# Altium integrated library Big_Library_Transistor.IntLib: 10 symbols
Pins are listed as number, name and electrical type; pins without a type are passive.

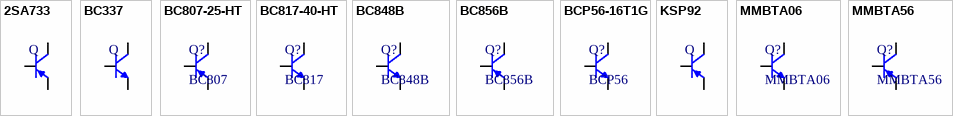
[diagram p0: symbols 2SA733 to MMBTA56]

## 2SA733
designator Q
footprint TO-92
pins: 1 E, 2 C, 3 B

## BC337
designator Q
footprint TO-92
pins: 1 C, 2 B, 3 E

## BC807-25-HT
designator Q?, comment BC807
TRANSISTOR DIS.500mA 45V PNP SOT23 EPITAXIAL SMT; Current: 500mA; Voltage(CE): -45V; Channel: PNP; Package: SOT23; ComponentLink1Description: Link; ComponentLink1URL: https://ozdisan.com/guc-yari-iletkenleri/transistorler/discrete-transistorler/BC807-25-HT/448899
footprint INF-SOT23_L (SOT23, 3-Leads, Body 2.9x1.3 mm, Pitch 0.95 mm, IPC High Density)
footprint INF-SOT23_M (SOT23, 3-Leads, Body 2.9x1.3 mm, Pitch 0.95 mm, IPC Low Density)
footprint INF-SOT23_N (SOT23, 3-Leads, Body 2.9x1.3 mm, Pitch 0.95 mm, IPC Medium Density)
pins: 1 B, 2 E, 3 C

## BC817-40-HT
designator Q?, comment BC817
NPN Silicon AF Transistor, 30 V VCEO, 100 mA IC, SOT23, Reel, Green; Manufacturer: Infineon; VCEO (max): 45V; ICM (max): 500mA; IBM (max): 2000mA; Green: TRUE; ICBO (max): 15Â nA; fT (typ): 250Â MHz; Ptot (max): 330Â mW; Packing: Reel; Polarity: NPN; PartNumber: BC817; VCBO (max): 45V; IC (max): 500mA; Mounting Technology: Surface Mount; PackageDescription: 3-Pin Small Outline Transistor Package, 1.3 x 2.9 mm Body, 0.95 mm Pitch; PackageReference: SOT23; ComponentLink1Description: Link1; ComponentLink1URL: https://ozdisan.com/power-semiconductors/transistors/discrete-transistors/BC817-40-HT/417241
footprint INF-SOT23_L (SOT23, 3-Leads, Body 2.9x1.3 mm, Pitch 0.95 mm, IPC High Density)
footprint INF-SOT23_M (SOT23, 3-Leads, Body 2.9x1.3 mm, Pitch 0.95 mm, IPC Low Density)
footprint INF-SOT23_N (SOT23, 3-Leads, Body 2.9x1.3 mm, Pitch 0.95 mm, IPC Medium Density)
pins: 1 B, 2 E, 3 C

## BC848B
designator Q?
NPN Silicon AF Transistor, 30 V VCEO, 100 mA IC, SOT23, Reel, Green; Manufacturer: Infineon; VCEO (max): 30Â V; ICM (max): 200Â mA; VEBO (max): 6Â V; Green: TRUE; IC (max): 100Â mA; ICBO (max): 15Â nA; fT (typ): 250Â MHz; Ptot (max): 330Â mW; ComponentLink1Description: Manufacturer URL; ComponentLink3URL: http://www.infineon.com/dgdl/SOT23-Package_Overview.pdf?folderId=db3a30431936bc4b0119532290053c66&fileId=db3a30431936bc4b0119533468123c85; ComponentLink1URL: http://www.infineon.com/; ComponentLink2URL: http://www.infineon.com/dgdl/bc847series_bc848series_bc849series_bc850series.pdf?folderId=db3a304314dca389011541d30fa21656&fileId=db3a304314dca389011541d4630a1657; Packing: Reel; Polarity: NPN; IBM (max): 200Â mA; PartNumber: BC848B; VCBO (max): 30Â V; Mounting Technology: Surface Mount; PackageVersion: Apr-08; PackageDescription: 3-Pin Small Outline Transistor Package, 1.3 x 2.9 mm Body, 0.95 mm Pitch; ComponentLink3Description: Package Specification; PackageReference: SOT23; ComponentLink2Description: Datasheet; ComponentLink4Description: Link
footprint INF-SOT23_L (SOT23, 3-Leads, Body 2.9x1.3 mm, Pitch 0.95 mm, IPC High Density)
footprint INF-SOT23_M (SOT23, 3-Leads, Body 2.9x1.3 mm, Pitch 0.95 mm, IPC Low Density)
footprint INF-SOT23_N (SOT23, 3-Leads, Body 2.9x1.3 mm, Pitch 0.95 mm, IPC Medium Density)
pins: 1 B, 2 E, 3 C

## BC856B
designator Q?
PNP Ic=-100mA Vceo=-65V hfe=220~475 P=225mW; PartNumber: BC848B; Manufacturer: Infineon; Manufacturer Part Number: BC856BLT1G; VCEO (max): 30Â V; ICM (max): 200Â mA; VEBO (max): 6Â V; Packing: Reel; Polarity: NPN; Green: TRUE; IC (max): 100Â mA; ICBO (max): 15Â nA; fT (typ): 250Â MHz; Ptot (max): 330Â mW; Max Power Dissipation: 300mW; Collector Emitter Voltage (VCEO): 65V; Max Collector Current: 100mA; Emitter Base Voltage (VEBO): 5V; Collector Base Voltage (VCBO): 80V; hFE Min: 220; Collector Emitter Saturation Voltage: -650mV; Element Configuration: Single; Transition Frequency: 100MHz; Collector-emitter Voltage-Max: 650mV; Number of Elements: 1; Voltage Rating (DC): -65V; Current Rating: -100mA; ComponentLink1Description: Manufacturer URL; ComponentLink3URL: http://www.infineon.com/dgdl/SOT23-Package_Overview.pdf?folderId=db3a30431936bc4b0119532290053c66&fileId=db3a30431936bc4b0119533468123c85; ComponentLink1URL: http://www.infineon.com/; ComponentLink2URL: http://www.infineon.com/dgdl/bc847series_bc848series_bc849series_bc850series.pdf?folderId=db3a304314dca389011541d30fa21656&fileId=db3a304314dca389011541d4630a1657; IBM (max): 200Â mA; VCBO (max): 30Â V; Mounting Technology: Surface Mount; PackageVersion: Apr-08; PackageDescription: 3-Pin Small Outline Transistor Package, 1.3 x 2.9 mm Body, 0.95 mm Pitch; ComponentLink3Description: Package Specification; PackageReference: SOT23; ComponentLink2Description: Datasheet; Supplier 1: Future Electronics; RoHS: Yes; Category: BJTs; Stock 1: 1022; Pricing 1: 1=0,16700, 15=0,12300, 75=0,09640, 300=0,07370, 1500=0,04730 (USD); Case/Package: SOT-23-3; Number of Pins: 3; Contact Plating: Tin,Matte; Min Operating Temperature: -55°C; Max Operating Temperature: 150°C; Packaging: Tape and Reel; Package Quantity: 3000; Series: -; Collector Emitter Breakdown Voltage: 65V; Power Dissipation: 300mW; Frequency: 100MHz; Gain Bandwidth Product: 100MHz; Max Frequency: 100MHz; Max Breakdown Voltage: 65V; Length: 2.9mm; Width: 1.3mm; Height: 0.94mm; Radiation Hardening: No; RoHS Compliant: Yes; Lead Free: Lead Free; Reach SVHC Compliant: Yes; ComponentLink4URL: https://datasheet.ciiva.com/15138/getdatasheetpartid-38429-15138607.pdf?src-supplier=Verical; ComponentLink4Description: https://datasheet.ciiva.com/15138/getdatasheetpartid-38429-15138607.pdf?src-supplier=Verical; ComponentLink5URL: https://datasheet.ciiva.com/7972/bc856alt1-d-7972214.pdf?src-supplier=Element14; ComponentLink5Description: https://datasheet.ciiva.com/7972/bc856alt1-d-7972214.pdf?src-supplier=Element14; ComponentLink6URL: https://datasheet.ciiva.com/7972/bc856alt1-d-7972216.pdf?src-supplier=Element14; ComponentLink6Description: https://datasheet.ciiva.com/7972/bc856alt1-d-7972216.pdf?src-supplier=Element14; ComponentLink7URL: https://datasheet.ciiva.com/22664/1840529-22664118.pdf?src-supplier=Element14; ComponentLink7Description: https://datasheet.ciiva.com/22664/1840529-22664118.pdf?src-supplier=Element14; ComponentLink8URL: https://datasheet.ciiva.com/11202/bc856alt1-d-11202124.pdf?src-supplier=Avnet; ComponentLink8Description: https://datasheet.ciiva.com/11202/bc856alt1-d-11202124.pdf?src-supplier=Avnet; ComponentLink9URL: https://datasheet.ciiva.com/11198/bc856alt1-d-11198092.pdf?src-supplier=Avnet; ComponentLink9Description: https://datasheet.ciiva.com/11198/bc856alt1-d-11198092.pdf?src-supplier=Avnet; ComponentLink10URL: https://datasheet.ciiva.com/976/bc856alt1-d-976399.pdf?src-supplier=Digi-Key; ComponentLink10Description: https://datasheet.ciiva.com/976/bc856alt1-d-976399.pdf?src-supplier=Digi-Key; ComponentLink11URL: https://datasheet.ciiva.com/976/bc856alt1-d-976400.pdf?src-supplier=Digi-Key; ComponentLink11Description: https://datasheet.ciiva.com/976/bc856alt1-d-976400.pdf?src-supplier=Digi-Key; ComponentLink12URL: https://datasheet.ciiva.com/976/bc856alt1-d-976398.pdf?src-supplier=Digi-Key; ComponentLink12Description: https://datasheet.ciiva.com/976/bc856alt1-d-976398.pdf?src-supplier=Digi-Key; ComponentLink13Description: Link
footprint INF-SOT23_L (SOT23, 3-Leads, Body 2.9x1.3 mm, Pitch 0.95 mm, IPC High Density)
footprint INF-SOT23_M (SOT23, 3-Leads, Body 2.9x1.3 mm, Pitch 0.95 mm, IPC Low Density)
footprint INF-SOT23_N (SOT23, 3-Leads, Body 2.9x1.3 mm, Pitch 0.95 mm, IPC Medium Density)
pins: 1 B, 2 E, 3 C

## BCP56-16T1G
designator Q?, comment BCP56
Trans GP BJT NPN 80V 1A Automotive 4-Pin(3+Tab) SOT-223 T/R; Manufacturer: ON Semiconductor; Manufacturer Part Number: BCP56-16T1G; Max Power Dissipation: 1.5W; Collector Base Voltage (VCBO): 100V; Emitter Base Voltage (VEBO): 5V; Element Configuration: Single; Collector Emitter Saturation Voltage: 500mV; Transition Frequency: 130MHz; Number of Elements: 1; hFE Min: 25; Supplier 1: Digi-Key; RoHS: Yes; Category: BJTs; Stock 1: 31080; Pricing 1: 1=0.48000, 10=0.33400, 25=0.31080, 100=0.16880, 500=0.13768 (USD); Case/Package: SOT-223-4; Number of Pins: 4; Contact Plating: Tin,Matte; Min Operating Temperature: -65°C; Max Operating Temperature: 150°C; Packaging: Tape and Reel; Collector Emitter Voltage (VCEO): 80V; Max Collector Current: 1A; Polarity: NPN; Package Quantity: 1000; Collector Emitter Breakdown Voltage: 80V; Max Breakdown Voltage: 80V; Gain Bandwidth Product: 130MHz; Collector-emitter Voltage-Max: 500mV; Power Dissipation: 1.5W; Series: -; Frequency: 130MHz; Voltage Rating (DC): 80V; Current Rating: 1A; Max Frequency: 130MHz; Length: 6.5mm; Width: 3.5mm; Height: 1.57mm; Radiation Hardening: No; Lead Free: Lead Free; RoHS Compliant: Yes; REACH SVHC: No SVHC; ComponentLink1URL: https://datasheet.ciiva.com/15139/getdatasheetpartid-110207-15139278.pdf?src-supplier=Verical; ComponentLink1Description: https://datasheet.ciiva.com/15139/getdatasheetpartid-110207-15139278.pdf?src-supplier=Verical; ComponentLink2URL: https://datasheet.ciiva.com/976/bcp56t1-d-976689.pdf?src-supplier=Digi-Key; ComponentLink2Description: https://datasheet.ciiva.com/976/bcp56t1-d-976689.pdf?src-supplier=Digi-Key; ComponentLink3URL: https://datasheet.ciiva.com/976/bcp56t1-d-976690.pdf?src-supplier=Digi-Key; ComponentLink3Description: https://datasheet.ciiva.com/976/bcp56t1-d-976690.pdf?src-supplier=Digi-Key; ComponentLink4URL: https://datasheet.ciiva.com/976/bcp56t1-d-976691.pdf?src-supplier=Digi-Key; ComponentLink4Description: https://datasheet.ciiva.com/976/bcp56t1-d-976691.pdf?src-supplier=Digi-Key; ComponentLink5URL: https://datasheet.ciiva.com/16218/bcp56t1-d-16218471.pdf?src-supplier=Future+Electronics; ComponentLink5Description: https://datasheet.ciiva.com/16218/bcp56t1-d-16218471.pdf?src-supplier=Future+Electronics; ComponentLink6URL: https://datasheet.ciiva.com/16478/bcp56t1-d-16478825.pdf?src-supplier=Avnet+Asia; ComponentLink6Description: https://datasheet.ciiva.com/16478/bcp56t1-d-16478825.pdf?src-supplier=Avnet+Asia; ComponentLink7URL: https://datasheet.ciiva.com/11198/bcp56t1-d-11198028.pdf?src-supplier=Avnet; ComponentLink7Description: https://datasheet.ciiva.com/11198/bcp56t1-d-11198028.pdf?src-supplier=Avnet
footprint SOT-223 (SOT223, 4-Leads, Body 6.5x3.5mm, Pitch 2.3mm)
pins: 1 B, 2,4 C, 3 E

## KSP92
designator Q
footprint TO-92
pins: 1 E, 2 B, 3 C

## MMBTA06
designator Q?
TRANSISTOR DIS.500mA 80V NPN SOT23 H.VOLT SMT; Current: 500mA; Power: 225mW; Voltage: 80V; Package: SOT23; ComponentLink1Description: Link; ComponentLink1URL: https://ozdisan.com/power-semiconductors/transistors/discrete-transistors/MMBTA06R100001/530206; Channel: NPN
footprint INF-SOT23_L (SOT23, 3-Leads, Body 2.9x1.3 mm, Pitch 0.95 mm, IPC High Density)
footprint INF-SOT23_M (SOT23, 3-Leads, Body 2.9x1.3 mm, Pitch 0.95 mm, IPC Low Density)
footprint INF-SOT23_N (SOT23, 3-Leads, Body 2.9x1.3 mm, Pitch 0.95 mm, IPC Medium Density)
pins: 1 B, 2 E, 3 C

## MMBTA56
designator Q?
TRANSISTOR DIS.500mA 80V PNP SOT23 GEN.SMT; Current: 500mA; Power: 225mW; Voltage: 80V; Package: SOT23; ComponentLink1Description: Link; ComponentLink1URL: https://ozdisan.com/power-semiconductors/transistors/discrete-transistors/MMBTA56R100001/602374; Channel: PNP
footprint INF-SOT23_L (SOT23, 3-Leads, Body 2.9x1.3 mm, Pitch 0.95 mm, IPC High Density)
footprint INF-SOT23_M (SOT23, 3-Leads, Body 2.9x1.3 mm, Pitch 0.95 mm, IPC Low Density)
footprint INF-SOT23_N (SOT23, 3-Leads, Body 2.9x1.3 mm, Pitch 0.95 mm, IPC Medium Density)
pins: 1 B, 2 E, 3 C